# Altium schematic symbol library ShiPeng.SchLib: 10 symbols
Pins are listed as number, name and electrical type; pins without a type are passive.

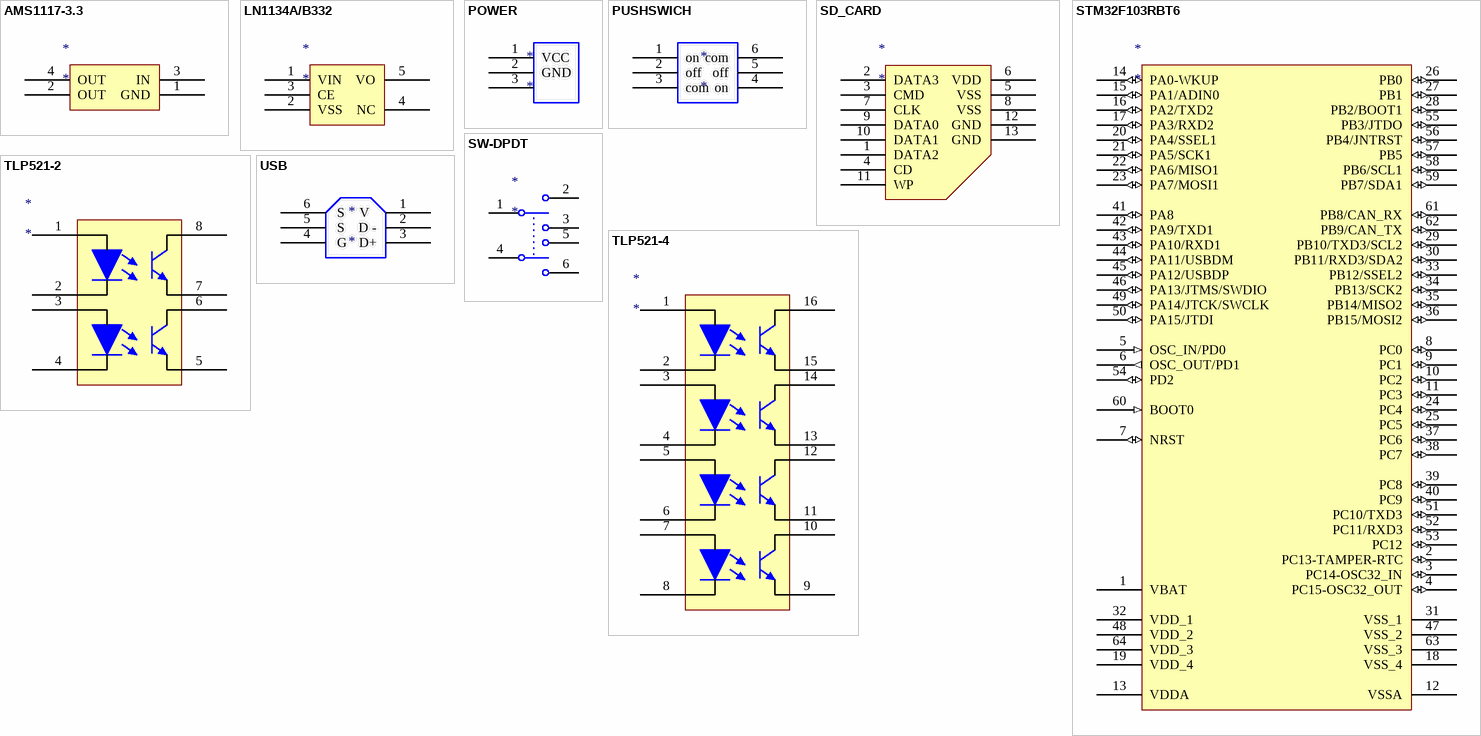
[diagram p0: symbols AMS1117-3.3 to USB]

## AMS1117-3.3
designator *
footprint SOT223
pins: 1 GND, 2 OUT, 3 IN, 4 OUT

## LN1134A/B332
designator *
footprint SOT23-5
pins: 1 VIN, 2 VSS, 3 CE, 4 NC, 5 VO

## POWER
designator *
footprint POWER
pins: 1 VCC, 2 GND, 3

## PUSHSWICH
designator *
footprint DPDT-6
pins: 1 on, 2 off, 3 com, 4 on, 5 off, 6 com

## SD_CARD
designator *
footprint SD_CARD
pins: 1 DATA2, 2 DATA3, 3 CMD, 4 CD, 5 VSS, 6 VDD, 7 CLK, 8 VSS, 9 DATA0, 10 DATA1, 11 WP, 12 GND, 13 GND

## STM32F103RBT6
designator *
footprint LQFP64_L
footprint LQFP64_M
footprint LQFP64_N
pins: 1 VBAT (power), 2 PC13-TAMPER-RTC (io), 3 PC14-OSC32_IN (io), 4 PC15-OSC32_OUT (io), 5 OSC_IN/PD0 (in), 6 OSC_OUT/PD1 (out), 7 NRST (io), 8 PC0 (io), 9 PC1 (io), 10 PC2 (io), 11 PC3 (io), 12 VSSA (power), 13 VDDA (power), 14 PA0-WKUP (io), 15 PA1/ADIN0 (io), 16 PA2/TXD2 (io), 17 PA3/RXD2 (io), 18 VSS_4 (power), 19 VDD_4 (power), 20 PA4/SSEL1 (io), 21 PA5/SCK1 (io), 22 PA6/MISO1 (io), 23 PA7/MOSI1 (io), 24 PC4 (io), 25 PC5 (io), 26 PB0 (io), 27 PB1 (io), 28 PB2/BOOT1 (io), 29 PB10/TXD3/SCL2 (io), 30 PB11/RXD3/SDA2 (io), 31 VSS_1 (power), 32 VDD_1 (power), 33 PB12/SSEL2 (io), 34 PB13/SCK2 (io), 35 PB14/MISO2 (io), 36 PB15/MOSI2 (io), 37 PC6 (io), 38 PC7 (io), 39 PC8 (io), 40 PC9 (io), 41 PA8 (io), 42 PA9/TXD1 (io), 43 PA10/RXD1 (io), 44 PA11/USBDM (io), 45 PA12/USBDP (io), 46 PA13/JTMS/SWDIO (io), 47 VSS_2 (power), 48 VDD_2 (power), 49 PA14/JTCK/SWCLK (io), 50 PA15/JTDI (io), 51 PC10/TXD3 (io), 52 PC11/RXD3 (io), 53 PC12 (io), 54 PD2 (io), 55 PB3/JTDO (io), 56 PB4/JNTRST (io), 57 PB5 (io), 58 PB6/SCL1 (io), 59 PB7/SDA1 (io), 60 BOOT0 (in), 61 PB8/CAN_RX (io), 62 PB9/CAN_TX (io), 63 VSS_3 (power), 64 VDD_3 (power)

## SW-DPDT
designator *
footprint DPDT-6
pins: 1, 2, 3, 4, 5, 6

## TLP521-2
designator *
footprint SOP-8_N
footprint DIP-8 (DIP; 8 Leads; Row Spacing 7.62 mm; Pitch 2.54 mm)
footprint SOP-8_L
footprint SOP-8_M
pins: 1, 2, 3, 4, 5, 6, 7, 8

## TLP521-4
designator *
footprint SOP-16_N
footprint DIP-16 (DIP; 16 Leads; Row Spacing 7.62 mm; Pitch 2.54 mm)
footprint SOP-16_L
footprint SOP-16_M
pins: 1, 2, 3, 4, 5, 6, 7, 8, 9, 10, 11, 12, 13, 14, 15, 16

## USB
designator *
footprint USB
pins: 1 V  , 2 D -, 3 D+, 4  G, 5  S, 6  S